# Altium schematic symbol library STM32U575RGT3.SchLib: 1 symbol
Pins are listed as number, name and electrical type; pins without a type are passive.

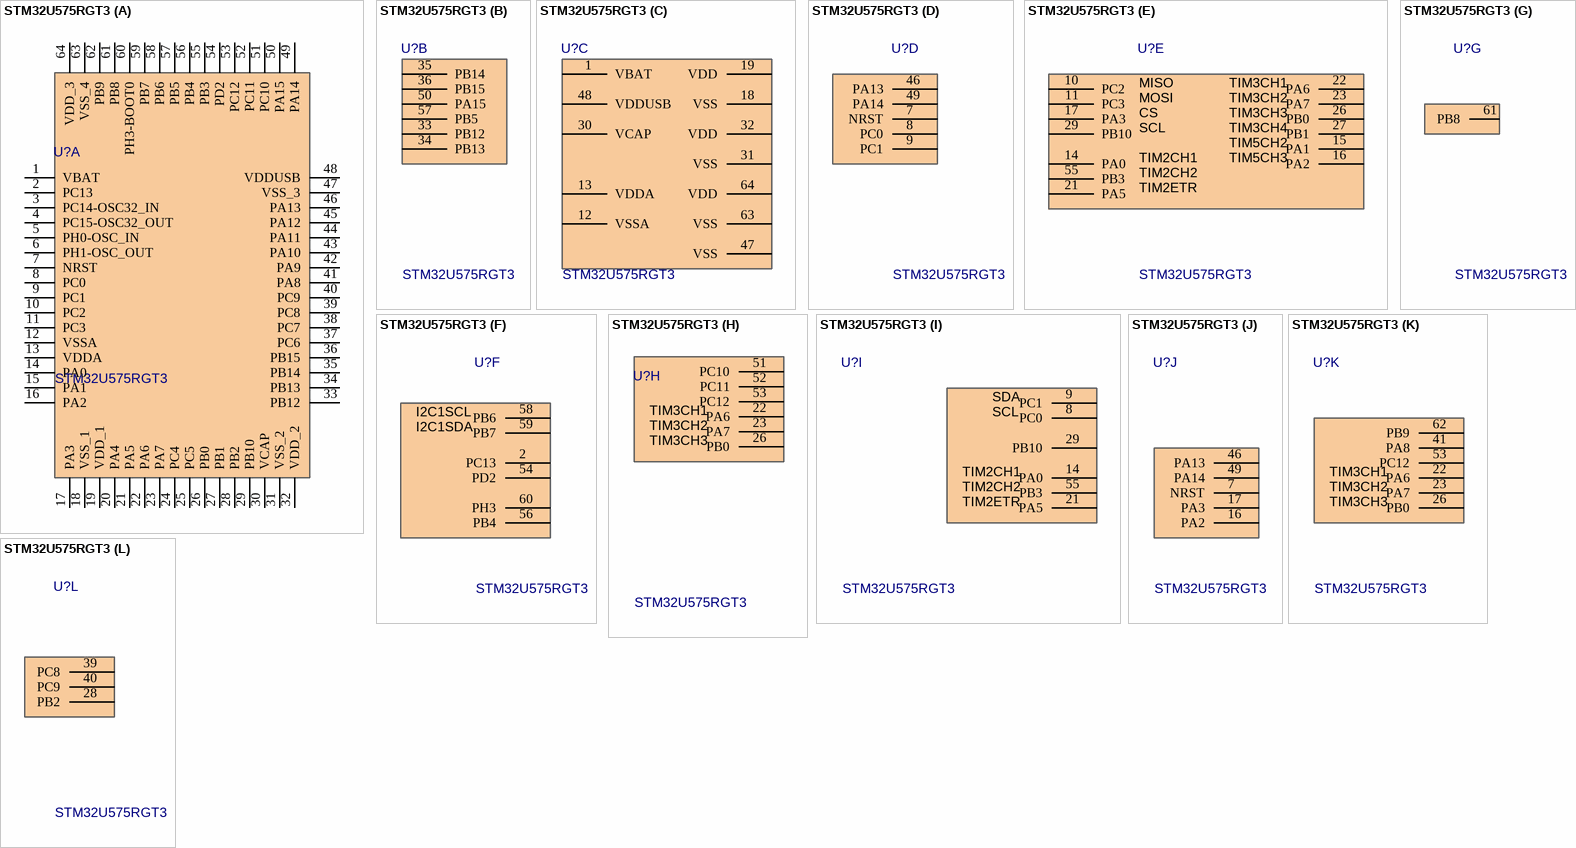
[diagram p0: symbol STM32U575RGT3]

## STM32U575RGT3
designator U?
Ultra-low-power Arm Cortex-M33 32-bit MCU+TrustZone+FPU, 240 DMIPS, up to 2 MB Flash memory, 786 KB SRAM; Manufacturer_Name: STMicroelectronics; Geometry.Height: 1.6mm; Manufacturer_Part_Number: STM32U575RGT3; Mouser Part Number: *; Mouser Price/Stock: *; Arrow Part Number: *; Arrow Price/Stock: *; Datasheet Link: https://www.st.com/resource/en/datasheet/stm32u575ag.pdf
footprint QFP50P1200X1200X160-64N
part A pins: 1 VBAT, 2 PC13, 3 PC14-OSC32_IN, 4 PC15-OSC32_OUT, 5 PH0-OSC_IN, 6 PH1-OSC_OUT, 7 NRST, 8 PC0, 9 PC1, 10 PC2, 11 PC3, 12 VSSA, 13 VDDA, 14 PA0, 15 PA1, 16 PA2, 17 PA3, 18 VSS_1, 19 VDD_1, 20 PA4, 21 PA5, 22 PA6, 23 PA7, 24 PC4, 25 PC5, 26 PB0, 27 PB1, 28 PB2, 29 PB10, 30 VCAP, 31 VSS_2, 32 VDD_2, 33 PB12, 34 PB13, 35 PB14, 36 PB15, 37 PC6, 38 PC7, 39 PC8, 40 PC9, 41 PA8, 42 PA9, 43 PA10, 44 PA11, 45 PA12, 46 PA13, 47 VSS_3, 48 VDDUSB, 49 PA14, 50 PA15, 51 PC10, 52 PC11, 53 PC12, 54 PD2, 55 PB3, 56 PB4, 57 PB5, 58 PB6, 59 PB7, 60 PH3-BOOT0, 61 PB8, 62 PB9, 63 VSS_4, 64 VDD_3
part B pins: 33 PB12, 34 PB13, 35 PB14, 36 PB15, 50 PA15, 57 PB5
part C pins: 1 VBAT, 12 VSSA, 13 VDDA, 18 VSS, 19 VDD, 30 VCAP, 31 VSS, 32 VDD, 47 VSS, 48 VDDUSB, 63 VSS, 64 VDD
part D pins: 7 NRST, 8 PC0, 9 PC1, 46 PA13, 49 PA14
part E pins: 10 PC2, 11 PC3, 14 PA0, 15 PA1, 16 PA2, 17 PA3, 21 PA5, 22 PA6, 23 PA7, 26 PB0, 27 PB1, 29 PB10, 55 PB3
part F pins: 2 PC13, 54 PD2, 56 PB4, 58 PB6, 59 PB7, 60 PH3
part G pins: 61 PB8
part H pins: 22 PA6, 23 PA7, 26 PB0, 51 PC10, 52 PC11, 53 PC12
part I pins: 8 PC0, 9 PC1, 14 PA0, 21 PA5, 29 PB10, 55 PB3
part J pins: 7 NRST, 16 PA2, 17 PA3, 46 PA13, 49 PA14
part K pins: 22 PA6, 23 PA7, 26 PB0, 41 PA8, 53 PC12, 62 PB9
part L pins: 28 PB2, 39 PC8, 40 PC9
part E text: MISO; TIM3CH1; MOSI; TIM3CH2; CS; TIM3CH3; SCL; TIM3CH4; TIM5CH2; TIM2CH1; TIM5CH3; TIM2CH2; TIM2ETR
part F text: I2C1SCL; I2C1SDA
part H text: TIM3CH1; TIM3CH2; TIM3CH3
part I text: SDA; SCL; TIM2CH1; TIM2CH2; TIM2ETR
part K text: TIM3CH1; TIM3CH2; TIM3CH3